# EAGLE library part 87759-48 (library untitled)
HEADER
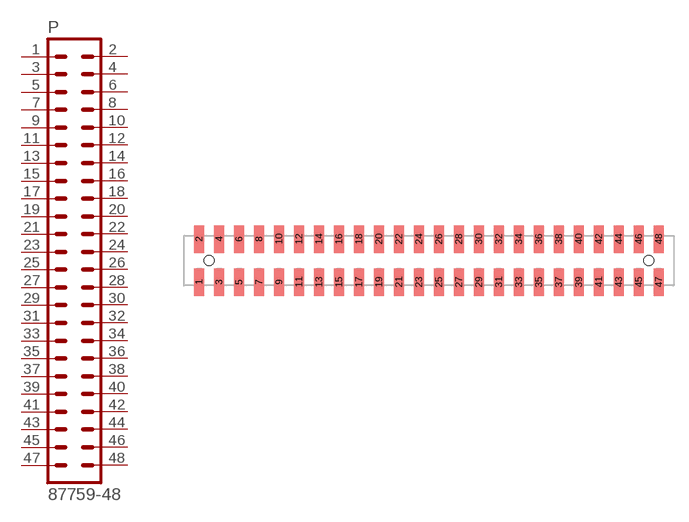
[diagram p135: symbol with the pads of 87759-48; footprint 87759-48]

Designator prefix P

## 87759-48  [87759-48]
1  1  pas
2  2  pas
3  3  pas
4  4  pas
5  5  pas
6  6  pas
7  7  pas
8  8  pas
9  9  pas
10  10  pas
11  11  pas
12  12  pas
13  13  pas
14  14  pas
15  15  pas
16  16  pas
17  17  pas
18  18  pas
19  19  pas
20  20  pas
21  21  pas
22  22  pas
23  23  pas
24  24  pas
25  25  pas
26  26  pas
27  27  pas
28  28  pas
29  29  pas
30  30  pas
31  31  pas
32  32  pas
33  33  pas
34  34  pas
35  35  pas
36  36  pas
37  37  pas
38  38  pas
39  39  pas
40  40  pas
41  41  pas
42  42  pas
43  43  pas
44  44  pas
45  45  pas
46  46  pas
47  47  pas
48  48  pas

## Footprint 87759-48 (pad centres in mm)
HEADER SMD Dual Row, Vertical
smd 1 x 2.75: 1 -23,-2.15; 2 -23,2.15; 3 -21,-2.15; 4 -21,2.15; 5 -19,-2.15; 6 -19,2.15; 7 -17,-2.15; 8 -17,2.15; 9 -15,-2.15; 10 -15,2.15; 11 -13,-2.15; 12 -13,2.15; 13 -11,-2.15; 14 -11,2.15; 15 -9,-2.15; 16 -9,2.15; 17 -7,-2.15; 18 -7,2.15; 19 -5,-2.15; 20 -5,2.15; 21 -3,-2.15; 22 -3,2.15; 23 -1,-2.15; 24 -1,2.15; 25 1,-2.15; 26 1,2.15; 27 3,-2.15; 28 3,2.15; 29 5,-2.15; 30 5,2.15; 31 7,-2.15; 32 7,2.15; 33 9,-2.15; 34 9,2.15; 35 11,-2.15; 36 11,2.15; 37 13,-2.15; 38 13,2.15; 39 15,-2.15; 40 15,2.15; 41 17,-2.15; 42 17,2.15; 43 19,-2.15; 44 19,2.15; 45 21,-2.15; 46 21,2.15; 47 23,-2.15; 48 23,2.15
hole 1 at -22,0
hole 1 at 22,0